# Altium footprint library SparkFun-RF.PCBLIB: 68 footprints (part 5 of 5)
Each footprint in its own frame and in the unit in brackets; x right, y up, seen from the top. Pads: shape width x height; smd on the part's side, far side on the other; paste and mask are expansions set on the pad; w line width, h text height; cw(c..) or ccw(c..) is an arc to the next point about the centre after c.
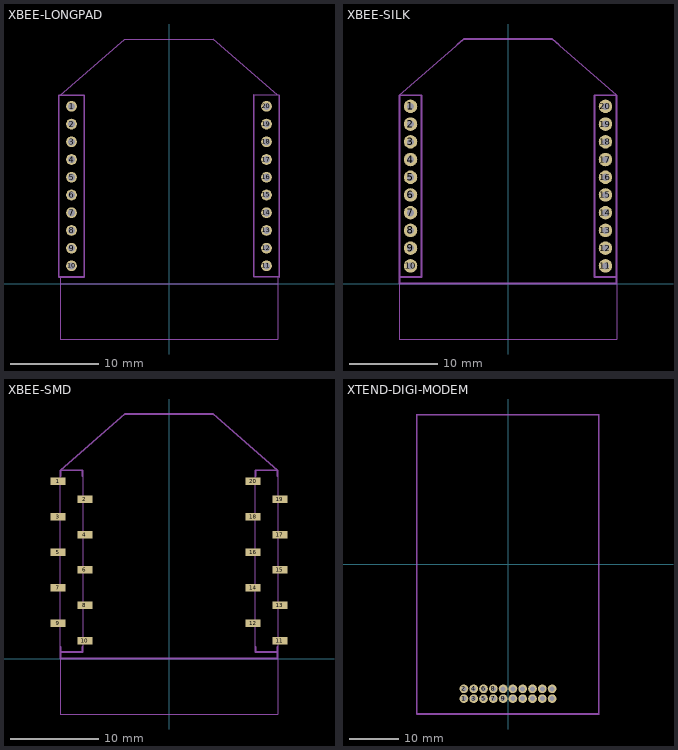
[diagram p4: the footprints below, top view; thin cyan lines are the x and y axes]

## XBEE-LONGPAD [mil]
pads (20):
  round 47.5 hole 31.5: 1(-433.07,787.4) 2(-433.07,708.66) 3(-433.07,629.92) 4(-433.07,551.18) 5(-433.07,472.44) 6(-433.07,393.7) 7(-433.07,314.96) 8(-433.07,236.22) 9(-433.07,157.48) 10(-433.07,78.74) 11(433.07,78.74) 12(433.07,157.48) 13(433.07,236.22) 14(433.07,314.96) 15(433.07,393.7) 16(433.07,472.44) 17(433.07,551.18) 18(433.07,629.92) 19(433.07,708.66) 20(433.07,787.4)
tDocu:
  lines w5: -482.28,29.53 -482.28,0 ; -482.28,836.61 -196.85,1086.61 196.85,1086.61 482.28,836.61 ; 482.28,29.53 482.28,0 ; -482.28,0 482.28,0 ; -482.28,0 -482.28,-246.06 482.28,-246.06 482.28,0
tPlace:
  lines w8: -489.78,29.53 -489.78,836.61 -376.36,836.61 -376.36,29.53 -489.78,29.53 ; 376.36,32.03 489.78,29.53 489.78,836.61 376.36,839.11 376.36,32.03
  text "1" at -369.02,787.4 h34

## XBEE-SILK [mil]
pads (20):
  round 60 hole 31.5: 1(-433.07,787.4) 2(-433.07,708.66) 3(-433.07,629.92) 4(-433.07,551.18) 5(-433.07,472.44) 6(-433.07,393.7) 7(-433.07,314.96) 8(-433.07,236.22) 9(-433.07,157.48) 10(-433.07,78.74) 11(433.07,78.74) 12(433.07,157.48) 13(433.07,236.22) 14(433.07,314.96) 15(433.07,393.7) 16(433.07,472.44) 17(433.07,551.18) 18(433.07,629.92) 19(433.07,708.66) 20(433.07,787.4)
tDocu:
  lines w5: -482.28,0 -482.28,-246.06 482.28,-246.06 482.28,0 ; -482.28,836.61 -196.85,1086.61 196.85,1086.61 482.28,836.61
tPlace:
  lines w8: -224.41,1062.99 -196.85,1086.61 196.85,1086.61 224.41,1062.99 ; -482.28,29.53 -482.28,836.61 -383.86,836.61 -383.86,29.53 -482.28,29.53 ; -482.28,29.53 -482.28,0 482.28,0 482.28,29.53 ; 482.28,29.53 482.28,836.61 383.86,836.61 383.86,29.53 482.28,29.53
  text "1" at -374.02,787.4 h34

## XBEE-SMD [mm]
pads (20):
  rect 1.7x0.85 smd: 1(-12.5,20) 2(-9.5,18) 3(-12.5,16) 4(-9.5,14) 5(-12.5,12) 6(-9.5,10) 7(-12.5,8) 8(-9.5,6) 9(-12.5,4) 10(-9.5,2) 11(12.5,2) 12(9.5,4) 13(12.5,6) 14(9.5,8) 15(12.5,10) 16(9.5,12) 17(12.5,14) 18(9.5,16) 19(12.5,18) 20(9.5,20)
tDocu:
  lines w0.127: -12.25,0 -12.25,-6.25 12.25,-6.25 12.25,0 ; -12.25,0.75 -12.25,21.25 -9.75,21.25 -9.75,0.75 -12.25,0.75 ; 9.75,0.75 9.75,21.25 12.25,21.25 12.25,0.75 9.75,0.75
tPlace:
  lines w0.203: -12.25,1.3 -12.25,0.75 ; -12.25,20.6 -12.25,21.25 ; -9.75,1.3 -9.75,0.75 -12.25,0.75 ; -9.75,20.6 -9.75,21.25 -12.25,21.25 ; 9.75,1.3 9.75,0.75 12.25,0.75 ; 9.75,20.6 9.75,21.25 12.25,21.25 ; 12.25,1.3 12.25,0.75 ; 12.25,20.6 12.25,21.25 ; -12.25,0.75 -12.25,0 12.25,0 12.25,0.75 ; -12.25,21.25 -5,27.6 5,27.6 12.25,21.25
  text "1" at -9.5,20 h0.86

## XTEND-DIGI-MODEM [mil]
pads (20):
  round 70 hole 40: 1(-354.33,-1082.68) 2(-354.33,-1003.94) 3(-275.59,-1082.68) 4(-275.59,-1003.94) 5(-196.85,-1082.68) 6(-196.85,-1003.94) 7(-118.11,-1082.68) 8(-118.11,-1003.94) 9(-39.37,-1082.68) 10(-39.37,-1003.94) 11(39.37,-1082.68) 12(39.37,-1003.94) 13(118.11,-1082.68) 14(118.11,-1003.94) 15(196.85,-1082.68) 16(196.85,-1003.94) 17(275.59,-1082.68) 18(275.59,-1003.94) 19(354.33,-1082.68) 20(354.33,-1003.94)
tDocu:
  lines w5: -728.35,-1200.79 -728.35,1200.79 728.35,1200.79 728.35,-1200.79 -728.35,-1200.79
tPlace:
  lines w8: -733.35,-1205.79 -733.35,1205.79 733.35,1205.79 733.35,-1205.79 -733.35,-1205.79
  text "1" at -350.39,-1129.92 h34